# EAGLE library part X9C102PIZ (library Intersil_By_element14_Batch_1)
Digitally Controlled Potentiometer
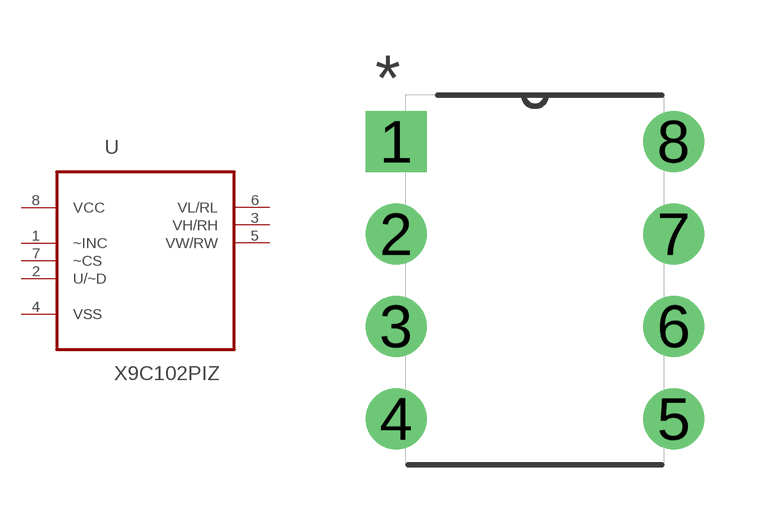
[diagram p233: symbol with the pads of DIP254P762X533-8; footprint DIP254P762X533-8]

Designator prefix U

## X9C102PIZ (MPN: X9C102PIZ; OC_FARNELL: 1562037; OC_NEWARK: 79K8944; PACKAGE: PDIP-8; SUPPLIER: INTERSIL)  [DIP254P762X533-8]
1  ~INC  in
2  U/~D  in
3  VH/RH  pas
4  VSS  pas
5  VW/RW  pas
6  VL/RL  pas
7  ~CS  in
8  VCC  pwr

## Footprint DIP254P762X533-8 (pad centres in mm)
drill 1.118 square: 1 -7.62,7.62
drill 1.118: 2 -7.62,5.08; 3 -7.62,2.54; 4 -7.62,0; 5 0,0; 6 0,2.54; 7 0,5.08; 8 0,7.62